# Altium footprint library Soardra.PcbLib: 139 footprints (part 4 of 9)
Each footprint in its own frame and in the unit in brackets; x right, y up, seen from the top. Pads: shape width x height; smd on the part's side, far side on the other; paste and mask are expansions set on the pad; w line width, h text height; cw(c..) or ccw(c..) is an arc to the next point about the centre after c.
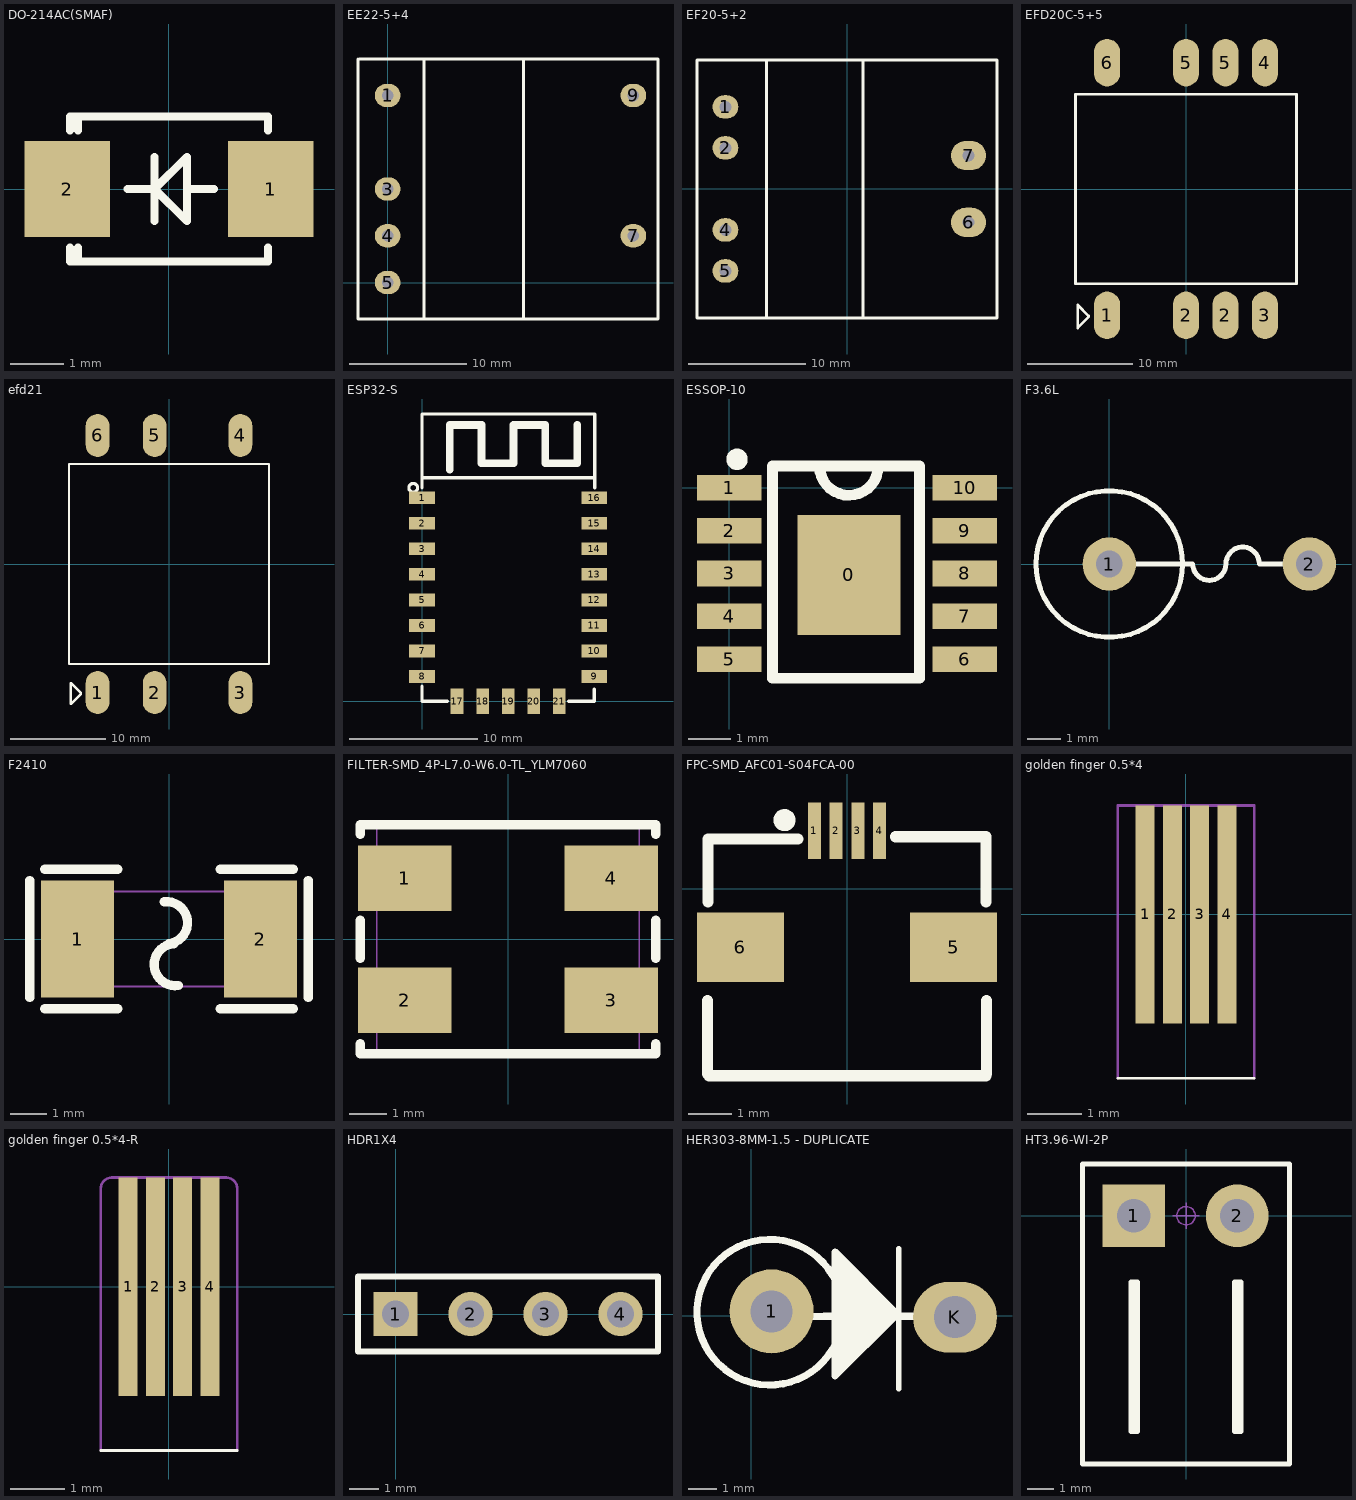
[diagram p3: the footprints below, top view; thin cyan lines are the x and y axes]

## DO-214AC(SMAF) [mm]
height 0.5
pads (2):
  rect 1.6x1.8 smd: 1(1.9,0) 2(-1.9,0)
Top Overlay:
  lines w0.15: -1.85,-1.094 -1.85,-1.35 1.85,-1.35 1.85,-1.094 ; -1.85,1.094 -1.85,1.35 1.85,1.35 1.85,1.094 ; -1.7,-1.35 -1.7,-1.094 ; -1.7,1.094 -1.7,1.35 ; -0.777,0 -0.268,0 ; -0.268,-0.6 -0.268,0 ; -0.268,0.6 -0.268,0 ; 0.332,0 0.841,0 ; 0.332,0.6 0.332,-0.6 -0.268,0 ; 0.332,0.6 -0.268,0
3D body: height 1.01, standoff 1, extent -1.3,-1.35 -1.1,1.35
3D body: height 1.01, standoff 1, extent -1.7,-1.35 -1.5,1.35
3D body: height 0.25, standoff 0, extent 1.5,-0.8 2.3,0.8
3D body: height 0.25, standoff 0, extent -2.3,-0.8 -1.5,0.8
3D body: height 1, standoff 0, extent -1.7,-1.35 1.85,1.35

## EE22-5+4 [mm]
height 1.14
pads (6):
  oval 2.2x2 hole 1: 1(0,16) 3(0,8) 4(0,4) 5(0,0) 7(21,4) 9(21,16)
Top Overlay:
  lines w0.254: -2.54,19.1 -2.54,-3.1 23.114,-3.1 23.114,19.1 ; -2.413,19.1 23.089,19.1 ; 3.11,-3.1 3.11,18.973 ; 11.61,-3.1 11.61,19.1

## EF20-5+2 [mm]
height 1.14
pads (6):
  oval 2.2x2 hole 1: 1(-10.375,7) 2(-10.375,3.5) 4(-10.375,-3.5) 5(-10.375,-7)
  oval 3x2.5 hole 1: 6(10.375,-2.85) 7(10.375,2.85)
Top Overlay:
  lines w0.254: -6.878,-10.993 -6.878,10.944 ; 1.354,-11.011 1.354,10.945 ; -12.8,-11 -12.8,11 12.8,11 12.8,-11 -12.8,-11

## EFD20C-5+5 [mm]
height 0.5
pads (8):
  oval 2.5x4.5 smd: 1(-7.5,-12) 2(0,-12) 2(3.75,-12) 3(7.5,-12) 4(7.5,12) 5(0,12) 5(3.75,12) 6(-7.5,12)
Top Overlay:
  lines w0.254: -9.245,-12.15 -10.297,-13.202 -10.297,-10.997 -9.245,-12.049 ; -10.5,-9 -10.5,9 10.5,9 10.5,-9 -10.5,-9
3D body: height 3, standoff 2.5, extent -0.65,-12.45 0.65,-8.85
3D body: height 3, standoff 0, extent -0.65,-12.45 0.65,-11.45
3D body: height 3, standoff 0, extent 3.175,11.475 4.475,12.475
3D body: height 3, standoff 2.5, extent 3.175,8.875 4.475,12.475
3D body: height 3, standoff 0, extent 6.8,-12.6 8.1,-11.6
3D body: height 3, standoff 2.5, extent 6.8,-12.6 8.1,-9
3D body: height 3, standoff 0, extent 3.175,-12.475 4.475,-11.475
3D body: height 3, standoff 2.5, extent 3.175,-12.475 4.475,-8.875
3D body: height 3, standoff 0, extent -8.2,-12.6 -6.9,-11.6
3D body: height 3, standoff 2.5, extent -8.2,-12.6 -6.9,-9
3D body: height 3, standoff 0, extent 6.875,11.55 8.175,12.55
3D body: height 3, standoff 2.5, extent 6.875,8.95 8.175,12.55
3D body: height 3, standoff 0, extent -0.625,11.525 0.675,12.525
3D body: height 3, standoff 2.5, extent -0.625,8.925 0.675,12.525
3D body: height 3, standoff 2.5, extent -8.125,8.85 -6.825,12.45
3D body: height 3, standoff 0, extent -8.125,11.45 -6.825,12.45
3D body: height 11, standoff 0, extent -10.5,-9 10.5,9

## efd21 [mm]
height 0.5
pads (6):
  oval 2.5x4.5 smd: 1(-7.5,-13.5) 2(-1.5,-13.5) 3(7.5,-13.5) 4(7.5,13.5) 5(-1.5,13.5) 6(-7.5,13.5)
Top Overlay:
  lines w0.254: -9.245,-13.65 -10.297,-14.702 -10.297,-12.497 -9.245,-13.549 ; -10.5,-10.5 -10.5,10.5 10.5,10.5 10.5,-10.5 -10.5,-10.5
3D body: height 3, standoff 0, extent 6.8,-14.1 8.1,-13.1
3D body: height 3, standoff 2.5, extent 6.8,-14.1 8.1,-10.5
3D body: height 3, standoff 0, extent -2.2,-14.1 -0.9,-13.1
3D body: height 3, standoff 2.5, extent -2.2,-14.1 -0.9,-10.5
3D body: height 3, standoff 0, extent -8.2,-14.1 -6.9,-13.1
3D body: height 3, standoff 2.5, extent -8.2,-14.1 -6.9,-10.5
3D body: height 3, standoff 0, extent 6.9,13.1 8.2,14.1
3D body: height 3, standoff 2.5, extent 6.9,10.5 8.2,14.1
3D body: height 3, standoff 0, extent -2.1,13.1 -0.8,14.1
3D body: height 3, standoff 2.5, extent -2.1,10.5 -0.8,14.1
3D body: height 3, standoff 2.5, extent -8.1,10.5 -6.8,14.1
3D body: height 3, standoff 0, extent -8.1,13.1 -6.8,14.1
3D body: height 11, standoff 0, extent -10.5,-10.5 10.5,10.5

## ESP32-S [mm]
height 15
pads (21):
  rect 2x1 smd: 1(0,15.94) 2(0,13.94) 3(0,11.94) 4(0,9.94) 5(0,7.94) 6(0,5.94) 7(0,3.94) 8(0,1.94) 9(13.5,1.94) 10(13.5,3.94) 11(13.5,5.94) 12(13.5,7.94) 13(13.5,9.94) 14(13.5,11.94) 15(13.5,13.94) 16(13.5,15.94)
  rect 1x2 smd: 17(2.75,0) 18(4.75,0) 19(6.75,0) 20(8.75,0) 21(10.75,0)
Top Overlay:
  circle w0.254: c-0.686,16.719 r0.342
  lines w0.254: 0,1.2 0,0 2,0 ; 0,16.7 0,17.5 ; 11.5,0 13.5,0 13.5,0.945 ; 13.5,17.5 0,17.5 ; 13.534,16.7 13.534,17.5 13.534,22.5 0,22.5 0,17.5
  lines w0.6: 2.167,18.136 2.167,21.636 4.667,21.636 ; 4.666,21.635 4.666,18.635 7.168,18.635 7.168,21.635 9.667,21.635 9.667,18.635 12.166,18.635 12.166,21.635

## ESSOP-10 [mm]
height 0.55
pads (11):
  rect 2.4x2.8 smd: 0(2.794,-2.032)
  rect 1.5x0.6 smd: 1(0,0) 2(0,-1) 3(0,-2) 4(0,-3) 5(0,-4) 6(5.5,-4) 7(5.5,-3) 8(5.5,-2) 9(5.5,-1) 10(5.5,0)
Top Overlay:
  lines w0.25: 0.308,0.663 cw(c0.183,0.665) 0.308,0.666
  lines w0.254: 2.123,0.374 ccw(c2.794,0.508) 3.478,0.508 ; 1.016,-4.445 1.016,0.508 4.445,0.508 4.445,-4.445 1.016,-4.445

## F3.6L [mm]
height 1.14
pads (2):
  round 1.6 hole 0.8: 1(0,0) 2(6,0)
Top Overlay:
  circle w0.15: c0,0 r2.2
  lines w0.15: 0,0 2.5,0 ccw(c3,0.01) 3.5,0 cw(c4,0.01) 4.5,0 5.5,0

## F2410 [mm]
pads (2):
  rect 2x3.2 smd paste+0 mask+0.051: 1(-2.5,0) 2(2.5,0)
Top Overlay:
  lines w0.254: -3.81,-1.6 -3.81,1.6 ; -3.4,-1.905 -1.4,-1.905 ; -3.4,1.905 -1.4,1.905 ; -0.127,1.016 cw(c-0.067,0.444) 0,-0.127 ; 0.127,-0.127 ccw(c0.169,-0.701) 0.254,-1.27 ; 1.4,-1.905 3.4,-1.905 ; 1.4,1.905 3.4,1.905 ; 3.81,-1.6 3.81,1.6
Mechanical 15:
  region: -3.05,1.3 -1.55,1.3 -1.55,-1.3 -3.05,-1.3
  region: 1.55,1.3 3.05,1.3 3.05,-1.3 1.55,-1.3
  region: -2.99,-1.3 -2.99,-1.275 -3.025,-1.24 -3.075,-1.24 -3.11,-1.275 -3.11,-1.3 -3.11,-1.325 -3.075,-1.36 -3.025,-1.36 -2.99,-1.325 -2.99,-1.3
  lines w0.051: -3.05,-1.3 3.05,-1.3 3.05,1.3 -3.05,1.3 -3.05,-1.3

## FILTER-SMD_4P-L7.0-W6.0-TL_YLM7060 [mm]
pads (4):
  rect 2.5x1.75 smd: 1(-2.75,1.625) 2(-2.75,-1.625) 3(2.75,-1.625) 4(2.75,1.625)
Top Overlay:
  lines w0.254: -3.937,-2.794 -3.937,-3.048 3.937,-3.048 3.937,-2.794 ; -3.937,-0.508 -3.937,0.508 ; -3.937,2.794 -3.937,3.048 3.937,3.048 3.937,2.794 ; 3.937,-0.508 3.937,0.508
Mechanical 15:
  region: -3.441,3 -3.441,3.025 -3.476,3.06 -3.526,3.06 -3.561,3.025 -3.561,3 -3.561,2.976 -3.526,2.94 -3.476,2.94 -3.441,2.976 -3.441,3
  region: -3.501,2.375 -1.801,2.375 -1.801,0.875 -3.501,0.875
  region: -3.501,-0.875 -1.801,-0.875 -1.801,-2.375 -3.501,-2.375
  region: 1.801,-0.875 3.501,-0.875 3.501,-2.375 1.801,-2.375
  region: 1.801,2.375 3.501,2.375 3.501,0.875 1.801,0.875
  lines w0.051: -3.5,-3 -3.5,3 3.5,3 3.5,-3 -3.5,-3

## FPC-SMD_AFC01-S04FCA-00 [mm]
pads (6):
  rect 0.3x1.3 smd: 1(-0.751,1.34) 2(-0.25,1.338) 3(0.25,1.34) 4(0.75,1.34)
  rect 2x1.6 smd: 5(2.45,-1.34) 6(-2.45,-1.34)
Top Overlay:
  circle w0.254: c-1.437,1.578 r0.127
  lines w0.254: -3.207,-4.263 -3.207,-2.571 ; -3.198,-0.309 -3.198,1.14 -1.131,1.14 ; -3.175,-4.3 3.2,-4.3 ; 1.119,1.197 3.202,1.197 3.202,-0.309 ; 3.207,-4.263 3.207,-2.571
Mechanical 15:
  region: -3.198,-1.04 -3.198,-2.04 -1.698,-2.04 -1.698,-1.04
  region: -0.85,1.032 -0.65,1.032 -0.65,1.782 -0.85,1.782
  region: -0.35,1.031 -0.15,1.031 -0.15,1.781 -0.35,1.781
  region: 0.15,1.032 0.35,1.032 0.35,1.782 0.15,1.782
  region: 0.65,1.032 0.85,1.032 0.85,1.782 0.65,1.782
  region: 1.698,-1.04 1.698,-2.04 3.198,-2.04 3.198,-1.04

## golden finger 0.5*4 [mm]
pads (4):
  rect 0.35x4 smd: 1(-0.75,0) 2(-0.25,0) 3(0.25,0) 4(0.75,0)
Top Overlay:
  lines w0.05: -1.25,-3.001 1.249,-3.001
Bottom Overlay:
  lines w0.05: -1.251,-3 -1.251,2.103 1.252,2.103 1.252,-2.999 -1.249,-2.999
Mechanical 1:
  lines w0.05: -1.25,-3 -1.25,2 1.25,2 1.25,-3

## golden finger 0.5*4-R [mm]
pads (4):
  rect 0.35x4 smd: 1(-0.75,0) 2(-0.25,0) 3(0.25,0) 4(0.75,0)
Top Overlay:
  lines w0.05: -1.25,-3.001 1.249,-3.001
Mechanical 1:
  lines w0.05: -1.25,-3 -1.25,1.8 cw(c-1.05,1.8) -1.05,2 1.05,2 cw(c1.05,1.8) 1.25,1.8 1.25,-3

## HDR1X4 [mm]
pads (4):
  rect 1.5x1.5 hole 0.9: 1(0,0)
  round 1.5 hole 0.9: 2(2.54,0) 3(5.08,0) 4(7.62,0)
Top Overlay:
  lines w0.2: -1.27,-1.27 -1.27,1.27 8.89,1.27 8.89,-1.27 -1.27,-1.27

## HER303-8MM-1.5 - DUPLICATE [mm]
pads (2):
  round 3 hole 1.5: 1(0.736,0.16)
  oval 3x2.53 hole 1.5: K(7.284,-0.05)
Top Overlay:
  circle w0.254: c7.284,-0.05 r0.903
  circle w0.254: c0.751,0.022 r0.854
  circle w0.254: c0.67,0.13 r2.6
  lines w0.2: 5.275,-2.6 5.275,2.4
  lines w0.254: 0.85,-0.025 7.153,-0.025 ; 2.6,0 3.774,0 ; 2.997,-2.147 2.997,2.286 5.232,0.051 5.232,0 ; 3,2.075 3,-2.15 ; 3,2.15 3.15,2 3.175,2 5.2,-0.025 5.175,-0.025 ; 3.1,1.925 3.15,1.875 3.15,-1.95 ; 3.15,-1.651 3.15,-0.99 ; 3.175,-1.975 3,-2.15 ; 3.3,1.725 3.3,-1.775 3.425,-1.65 3.425,1.525 3.4,1.55 3.5,1.55 3.625,1.425 3.625,-1.475 3.625,-1.425 3.825,-1.225 3.825,1.175 3.875,1.175 4,1.05 ; 3.85,1.175 3.85,1.125 4.325,0.65 ; 3.95,-1.175 3.95,1.05 ; 4,-1 4.2,-0.8 4.2,0.725 4.175,0.75 4.35,0.75 4.425,0.675 4.425,-0.725 4.425,-0.675 4.575,-0.525 4.575,0.55 4.575,0.375 4.75,0.2 4.75,-0.225 4.7,-0.275 4.925,-0.05 4.925,0.05 4.875,0.1 ; 5.05,0 7.175,0 ; 5.15,0 3,-2.15 ; 3,-2.15 3,-2.15

## HT3.96-WI-2P [mm]
height 0.5
pads (2):
  rect 2.4x2.4 hole 1.3: 1(-2,0)
  round 2.4 hole 1.3: 2(1.96,0)
Top Overlay:
  lines w0.203: -1.98,-8.255 -1.98,-2.54 ; 1.98,-8.255 1.98,-2.54 ; -3.96,-9.5 -3.96,1.98 0,1.98 3.96,1.98 3.96,-9.5 0,-9.5 -3.96,-9.5 ; -2.107,-8.255 -2.107,-2.54 -1.853,-2.54 -1.853,-8.255 -2.107,-8.255 ; 1.853,-8.255 2.107,-8.255 2.107,-2.54 1.853,-2.54 1.853,-8.255
Mechanical 15:
  circle w0.05: c0,0 r0.35
  lines w0.05: -0.5,0 0.5,0 ; 0,-0.5 0,0.5
3D body "HT3.96-WI-1P.STEP": height 7.45, standoff -3.2, extent -3.98,-9.5 0.02,0.5
3D body "HT3.96-WI-1P.STEP": height 7.45, standoff -3.2, extent -0.02,-9.5 3.98,0.5